# Altium schematic symbol library power.SchLib: 1 symbol
Pins are listed as number, name and electrical type; pins without a type are passive.

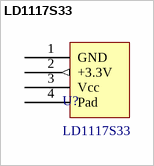
[diagram p0: symbol LD1117S33]

## LD1117S33
designator U?
Linear voltage regulator. / Uin, V: 15 V / Uout,V: 3,3 V / Iout,A: 0,8 A / Udrop, V: 1,1 V
footprint SOT230P700X180-4N (SOT223, 4-Leads, Body 6.50x7.00mm (avg), Pitch 2.30mm, IPC Medium Density)
pins: 1 GND, 2 +3.3V (out), 3 Vcc, 4 Pad